# Altium schematic symbol library PokaOsnova.SchLib: 7 symbols
Pins are listed as number, name and electrical type; pins without a type are passive.

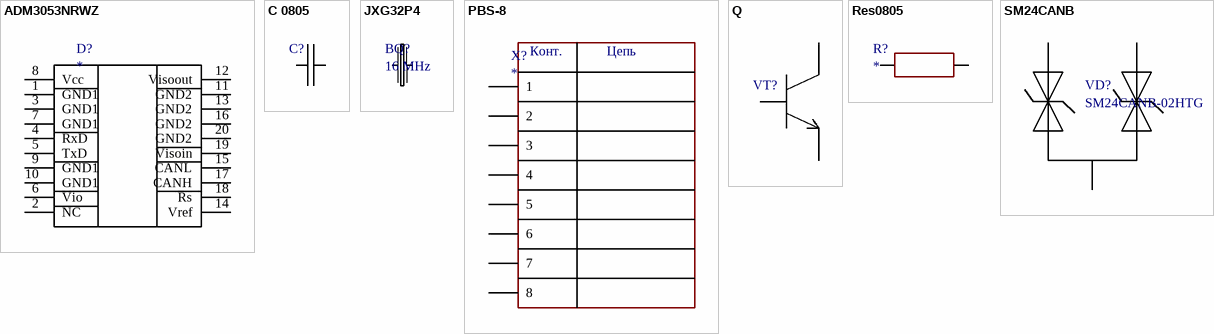
[diagram p0: symbols ADM3053NRWZ to SM24CANB]

## ADM3053NRWZ
designator D?
model: ADM3053BRWZ-ND; Help-URL: https://www.alldatasheet.com/view.jsp?Searchword=Adm3053brwz%20datasheet&gclid=Cj0KCQjw8e-gBhD0ARIsAJiDsaXFTGZhzCUtKLUTt27oqLf_mm4-aFybuzPCUM-FSyqCVIK48dZaphUaAqOBEALw_wcB; Component kind: SOIC-20
footprint SOP20
pins: 1 GND1, 2 NC, 3 GND1, 4 RxD, 5 TxD, 6 Vio, 7 GND1, 8 Vcc, 9 GND1, 10 GND1, 11 GND2, 12 Visoout, 13 GND2, 14 Vref, 15 CANL, 16 GND2, 17 CANH, 18 Rs, 19 Visoin, 20 GND2

## C 0805
designator C?
footprint C 0805
pins: 1, 2

## JXG32P4
designator BQ?, comment 16 MHz
Manufacture: JAUCH; Model: JXG32P4; Help-URL: https://pdf1.alldatasheet.com/datasheet-pdf/view/325317/JAUCH/JXG32P4.html; ComponentKind: QVARC; Value: 16 MHz
footprint JXG32P4
pins: 80, 81

## PBS-8
designator X?
pins: 1, 2, 3, 4, 5, 6, 7, 8
text: Конт.; Цепь

## Q
designator VT?  (value not drawn)
footprint Q
pins: 1, 2, 3

## Res0805
designator R?
footprint Res 0805
pins: 1, 2

## SM24CANB
designator VD?, comment SM24CANB-02HTG
Help-URL: https://www.littelfuse.com/~/media/electronics/datasheets/tvs_diode_arrays/littelfuse_tvs_diode_array_sm24canb_datasheet.pdf.pdf; ComponentKind: SOT-23; Model: SM24CANB-02HTG
footprint SOT23-3 (SOT23, 3-Leads, Body 2,92x2,37mm, Pitch 0,95mm, IPC Medium Density)
pins: 1, 2, 3 GND